# EAGLE library part TMUX1108PWR (library tmux1108)
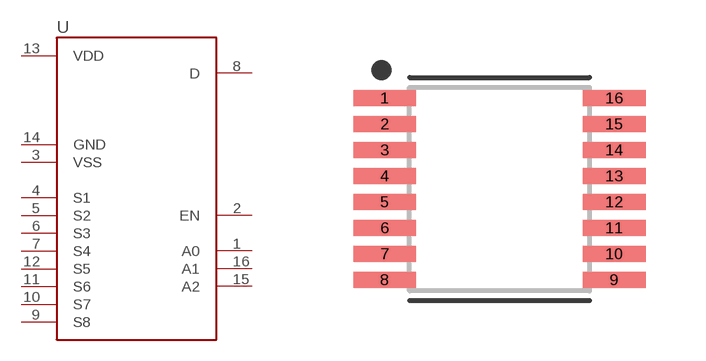
[diagram p0: symbol with the pads of SOP65P640X120-16N; footprint SOP65P640X120-16N]

Designator prefix U

## TMUX1108PWR (DIGIKEY: 296-53256-1-ND; MFR: TI; MFR_PN: MUX1108PWR)  [SOP65P640X120-16N]
1  A0
2  EN
3  VSS
4  S1
5  S2
6  S3
7  S4
8  D
9  S8
10  S7
11  S6
12  S5
13  VDD
14  GND
15  A2
16  A1

## Footprint SOP65P640X120-16N (pad centres in mm)
16-SOP, 0.65 mm pitch, 6.40 mm span, 5.00 X 4.40 X 1.20 mm body 16-pin SOP package with 0.65 mm pitch, 6.40 mm span with body size 5.00 X 4.40 X 1.20 mm
smd 1.572 x 0.407: 1 -2.872,2.275; 2 -2.872,1.625; 3 -2.872,0.975; 4 -2.872,0.325; 5 -2.872,-0.325; 6 -2.872,-0.975; 7 -2.872,-1.625; 8 -2.872,-2.275; 9 2.872,-2.275; 10 2.872,-1.625; 11 2.872,-0.975; 12 2.872,-0.325; 13 2.872,0.325; 14 2.872,0.975; 15 2.872,1.625; 16 2.872,2.275